# Altium footprint library CoinCellBattery.PcbLib: 1 footprints
Each footprint in its own frame and in the unit in brackets; x right, y up, seen from the top. Pads: shape width x height; smd on the part's side, far side on the other; paste and mask are expansions set on the pad; w line width, h text height; cw(c..) or ccw(c..) is an arc to the next point about the centre after c.
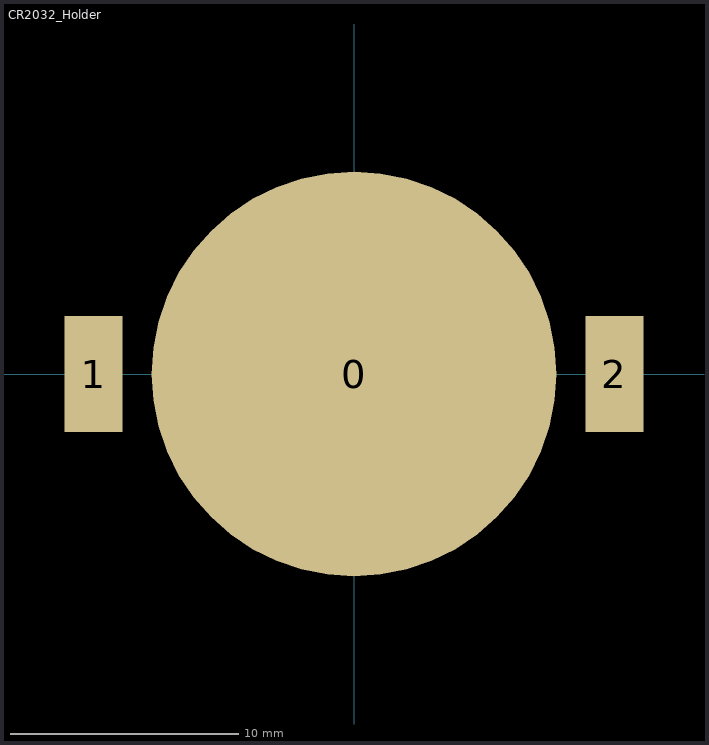
[diagram p0: the footprint, top view; thin cyan lines are the x and y axes]

## CR2032_Holder [mil] "20\" Coin Cell Battery Holder"
pads (3):
  round 700 smd: 0(0,0)
  rect 100x200 smd: 1(-450,0) 2(450,0)